# Altium footprint library FT232RQ.PcbLib: 1 footprints
Each footprint in its own frame and in the unit in brackets; x right, y up, seen from the top. Pads: shape width x height; smd on the part's side, far side on the other; paste and mask are expansions set on the pad; w line width, h text height; cw(c..) or ccw(c..) is an arc to the next point about the centre after c.
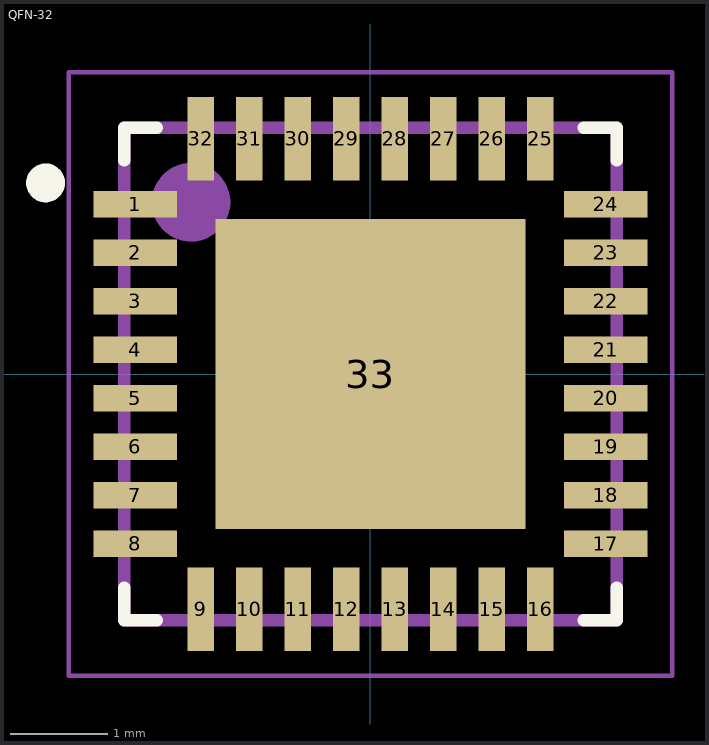
[diagram p0: the footprint, top view; thin cyan lines are the x and y axes]

## QFN-32 [mm]
pads (33):
  rect 0.86x0.27 smd: 1(-2.425,1.75) 2(-2.425,1.25) 3(-2.425,0.75) 4(-2.425,0.25) 5(-2.425,-0.25) 6(-2.425,-0.75) 7(-2.425,-1.25) 8(-2.425,-1.75) 17(2.425,-1.75) 18(2.425,-1.25) 19(2.425,-0.75) 20(2.425,-0.25) 21(2.425,0.25) 22(2.425,0.75) 23(2.425,1.25) 24(2.425,1.75)
  rect 0.27x0.86 smd: 9(-1.75,-2.425) 10(-1.25,-2.425) 11(-0.75,-2.425) 12(-0.25,-2.425) 13(0.25,-2.425) 14(0.75,-2.425) 15(1.25,-2.425) 16(1.75,-2.425) 25(1.75,2.425) 26(1.25,2.425) 27(0.75,2.425) 28(0.25,2.425) 29(-0.25,2.425) 30(-0.75,2.425) 31(-1.25,2.425) 32(-1.75,2.425)
  rect 3.2x3.2 smd: 33(0,0)
Top Overlay:
  circle w0.2: c-3.35,1.97 r0.1
  lines w0.127: -2.54,-2.2 -2.54,-2.54 -2.2,-2.54 ; -2.54,2.2 -2.54,2.54 -2.2,2.54 ; 2.2,-2.54 2.54,-2.54 2.54,-2.2 ; 2.2,2.54 2.54,2.54 2.54,2.2
Top Paste:
  region: -1.014,1.012 1.012,1.012 1.012,-1.014 -1.014,-1.014
Mechanical 4:
  circle w0.61: c-1.85,1.77 r0.1
  circle w0.61: c-1.85,1.77 r0.1
  lines w0.127: -2.54,-2.54 -2.54,2.54 ; -2.54,-2.54 2.54,-2.54 ; -2.54,-2.54 -2.54,2.54 ; -2.54,-2.54 2.54,-2.54 ; -2.54,2.54 2.54,2.54 ; -2.54,2.54 2.54,2.54 ; 2.54,-2.54 2.54,2.54 ; 2.54,-2.54 2.54,2.54
Mechanical 16:
  lines w0.05: -3.11,-3.11 -3.11,3.11 3.11,3.11 3.11,-3.11 -3.11,-3.11
3D body "FT232RQ.STEP": height 0.8, standoff -0.05, extent -2.5,-2.5 2.5,2.5